# EAGLE library part W25X40CLUX (library winbond)
IC FLASH 4MBIT 104MHZ
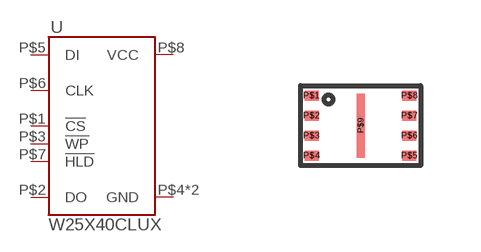
[diagram p0: symbol with the pads of USON-8(2X3UX); footprint USON-8(2X3UX)]

Designator prefix U

## W25X40CLUX (DIGIKEY: W25X40CLUXIGCT-ND; MFR: Winbond Electronics; MPN: W25X40CLUXIG TR)  [USON-8(2X3UX)]
P$1  !CS
P$2  DO
P$3  !WP
P$4  GND
P$5  DI
P$6  CLK
P$7  !HLD
P$8  VCC
P$9  GND

## Footprint USON-8(2X3UX) (pad centres in mm)
smd 0.35 x 0.25: P$1 -1.224,0.75; P$2 -1.224,0.25; P$3 -1.224,-0.25; P$4 -1.224,-0.75; P$5 1.224,-0.75; P$6 1.224,-0.25; P$7 1.224,0.25; P$8 1.224,0.75
smd 0.2 x 1.6: P$9 0,0